# Altium footprint library L_1206_COMMON_MODE.PcbLib: 1 footprints
Each footprint in its own frame and in the unit in brackets; x right, y up, seen from the top. Pads: shape width x height; smd on the part's side, far side on the other; paste and mask are expansions set on the pad; w line width, h text height; cw(c..) or ccw(c..) is an arc to the next point about the centre after c.
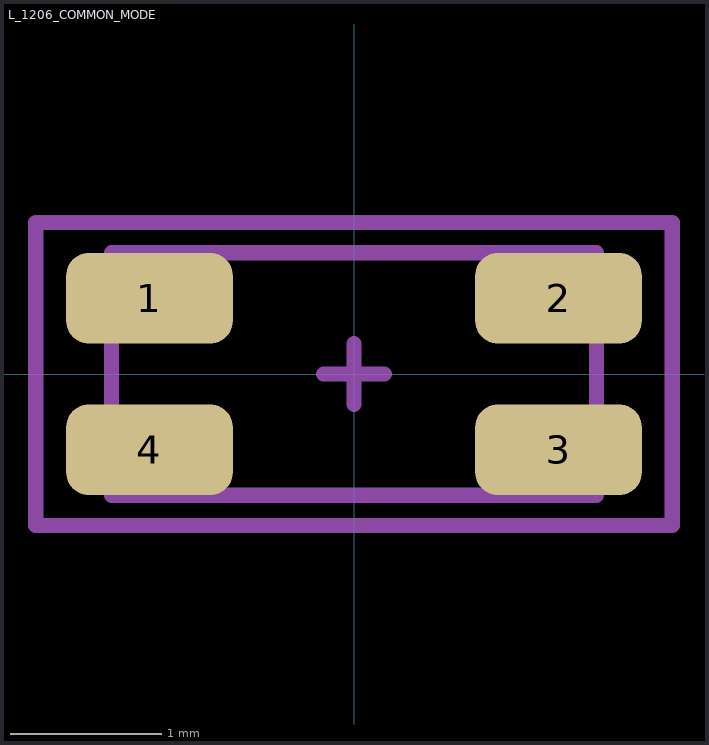
[diagram p0: the footprint, top view; thin cyan lines are the x and y axes]

## L_1206_COMMON_MODE [mm]
pads (4):
  rrect50% 1.1x0.6 smd mask+0.05: 1(-1.35,0.5) 2(1.35,0.5) 3(1.35,-0.5) 4(-1.35,-0.5)
Top Assembly:
  lines w0.1: -1.6,-0.8 -1.6,0.8 1.6,0.8 1.6,-0.8 -1.6,-0.8
Top Courtyard:
  lines w0.1: -0.2,0 0.2,0 ; 0,-0.2 0,0 0,0.2 ; -2.1,-1 -2.1,1 2.1,1 2.1,-1 -2.1,-1
3D body "WE-CNSW_1206_CNSW (rev1).stp": height 1.8, standoff 0, extent -1.6,-0.8 1.6,0.8